# Altium schematic symbol library Buck Switching Regulators.SchLib: 23 symbols
Pins are listed as number, name and electrical type; pins without a type are passive.

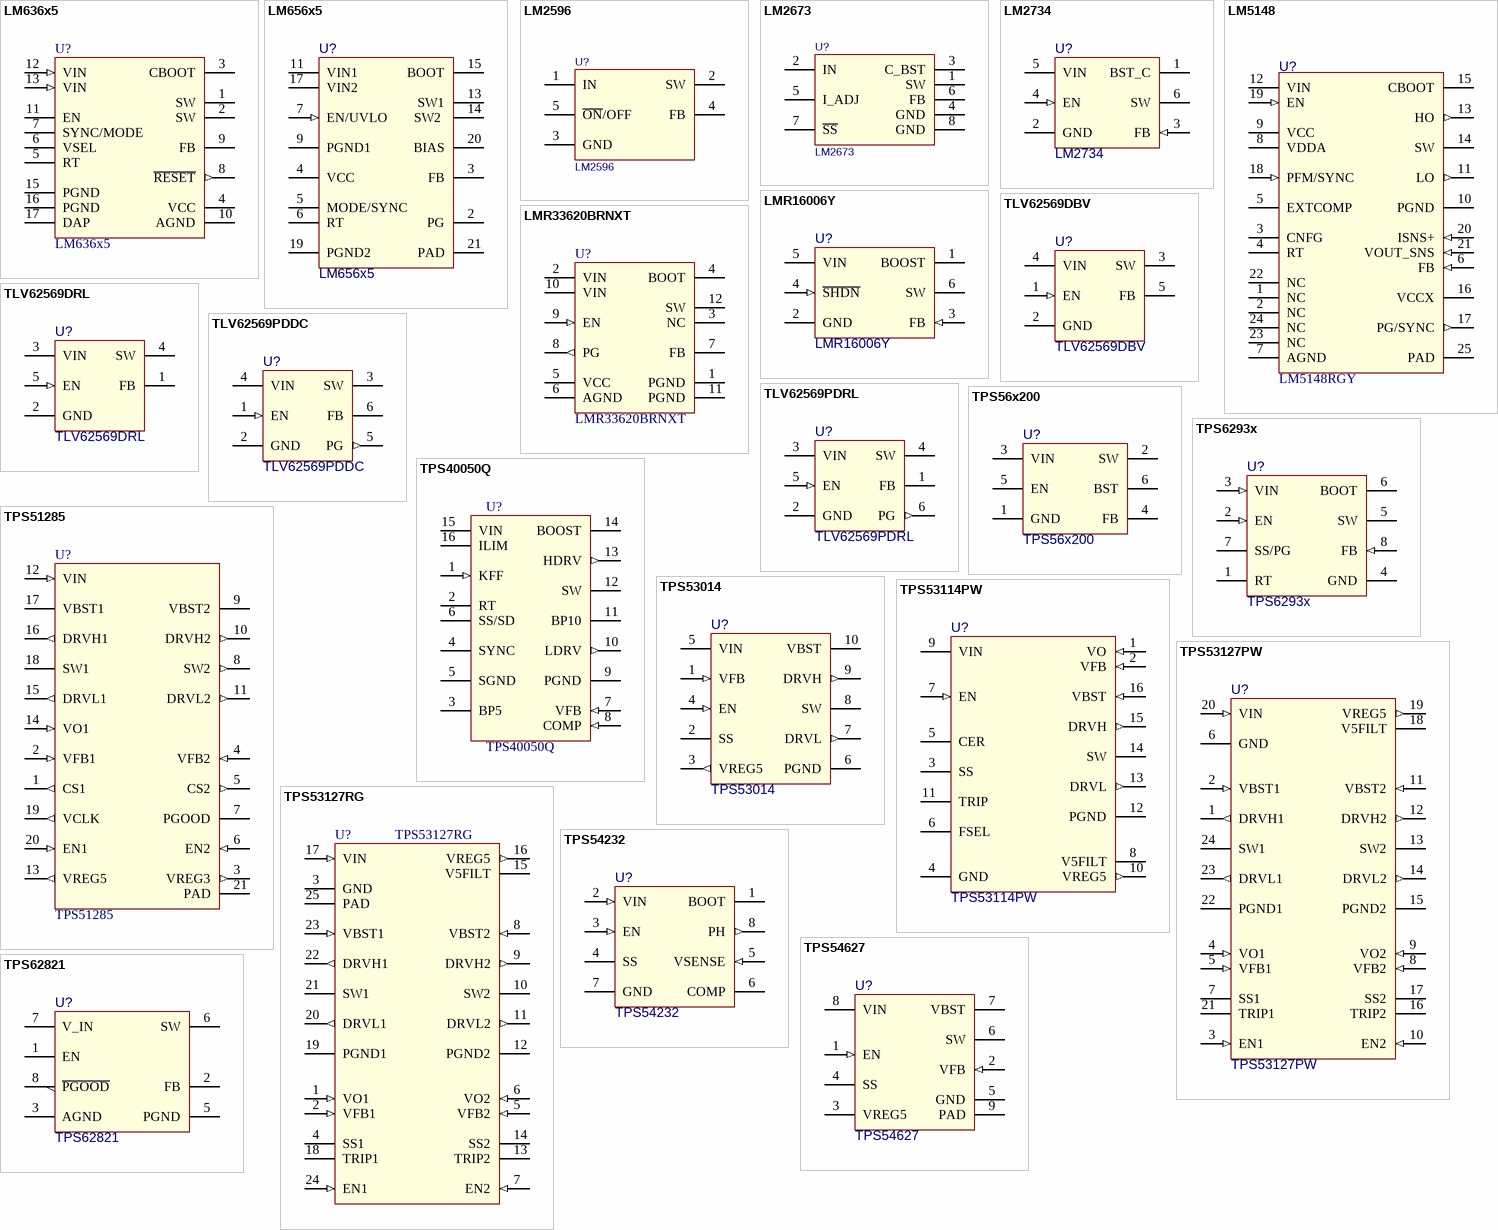
[diagram p0: symbols LM636x5 to TPS62821]

## LM636x5
designator U?
3.5-V to 36-V, 1.5-A, and 2.5-A Automotive Step-down Voltage Converter; value: TPS54232
footprint HTSSOP-16 (Footprint not found)
pins: 1 SW, 2 SW, 3 CBOOT, 4 VCC (power), 5 RT, 6 VSEL, 7 SYNC/MODE, 8 ~{RESET} (out), 9 FB, 10 AGND, 11 EN, 12 VIN (in), 13 VIN (in), 15 PGND, 16 PGND, 17 DAP

## LM656x5
designator U?
3V to 65V, 2.5A, 3.5A, 4.5A, / Automotive, Low EMI, Synchronous Buck Converters; Value: LM65635SRZTRQ1
footprint WQFN-20 (RZT0020A) (WQFN-FCRLF - 0.7 mm max height)
pins: 2 PG (oc), 3 FB, 4 VCC (power), 5 MODE/SYNC, 6 RT, 7 EN/UVLO (in), 9 PGND1 (power), 11 VIN1 (power), 13 SW1, 14 SW2 , 15 BOOT, 17 VIN2 (power), 19 PGND2 (power), 20 BIAS, 21 PAD

## LM2596
designator U?
SIMPLE SWITCHER® Power Converter 150-kHz / 3-A Step-Down Voltage Regulator; Value: LM2596
footprint TO263-5 (Footprint not found)
pins: 1 IN, 2 SW, 3 GND, 4 FB, 5 ~{ON}/OFF

## LM2673
designator U?
SIMPLE SWITCHER® 3-A Step-Down Voltage Regulator With Adjustable Current / Limit; PackageDocument: 1996; ComponentLink2DescA4: Datasheet; ComponentLink3DescAC: URL Link1; PackageReference: TA07B; Value: LM2673
footprint TO263-7 (Footprint not found)
pins: 1 SW, 2 IN, 3 C_BST, 4 GND, 5 I_ADJ, 6 FB, 7 ~{SS}, 8 GND

## LM2734
designator U?
Thin SOT 1-A Load Step-Down DC/DC Regulator; Value: LM2734
footprint SOT23-6 (Footprint not found)
pins: 1 BST_C, 2 GND (power), 3 FB (in), 4 EN (in), 5 VIN (power), 6 SW

## LM5148
designator U?, comment LM5148RGY
80-V, Synchronous, Buck DC/DC Controller with Ultra-Low IQ and Dual / Random Spread Spectrum; Value: LM5148RGY
footprint VQFN-24 (RGY0024F) (VQFN, 24-Leads, Body 3.50x5.50mm, Pitch 1.50mm/0.50mm, Thermal Pad 2.10x4.10mm, IPC Medium Density)
pins: 1 NC "Connect to GND at the exposed pad to improve heat spreading.", 2 NC "Connect to GND at the exposed pad to improve heat spreading.", 3 CNFG "Connect a resistor to ground to set primary/secondary, spread spectrum enable/disable, or interleaved", 4 RT "Frequency programming pin. A resistor from RT to AGND sets the  frequency between 100 kHz 2MHz", 5 EXTCOMP, 6 FB (in), 7 AGND (power), 8 VDDA (power), 9 VCC (power), 10 PGND (power), 11 LO (out) "Low-side power MOSFET gate driver output", 12 VIN (power), 13 HO (out) "High-side power MOSFET gate driver output", 14 SW "Switching node of the buck regulator and high-side gate driver return. Connect to the bootstrap capacitor,", 15 CBOOT "High-side driver supply for bootstrap gate driver", 16 VCCX (power) "Optional input for an external bias supply", 17 PG/SYNC (out), 18 PFM/SYNC (in), 19 EN (in), 20 ISNS+ (in), 21 VOUT_SNS (in), 22 NC "Connect to GND at the exposed pad to improve heat spreading.", 23 NC "Connect to GND at the exposed pad to improve heat spreading.", 24 NC "Connect to GND at the exposed pad to improve heat spreading.", 25 PAD

## LMR16006Y
designator U?
SIMPLE SWITCHER® Buck Regulators With High-Efficiency ECO Mode; value: LMR16006Y
footprint SOT-23-6 (Footprint not found)
pins: 1 BOOST, 2 GND (power), 3 FB (in), 4 ~{SHDN} (in), 5 VIN (power), 6 SW

## LMR33620BRNXT
designator U?
3.8-V to 36-V, 2-A Synchronous step-down voltage converter; Value: LMR33620BRNXT
footprint VQFN-HR-12 (VQFN-HR, 12-Leads, Body 2,00x3,00mm, Pitch 0,50mm, IPC Medium Density)
pins: 1 PGND (power), 2 VIN (power), 3 NC, 4 BOOT, 5 VCC (power), 6 AGND (power), 7 FB, 8 PG (out), 9 EN (in), 10 VIN (power), 11 PGND (power), 12 SW (power)

## TLV62569DBV
designator U?, comment value TLV62569DBV  (hidden comment: TLV62569DBV SOT23-5)
High Efficiency Synchronous Buck Converter in SOT Package
footprint SOT-23-5 (SOT23, 5-Leads, Body 2.9x1.6mm, Pitch 0.95mm, Lead Span 2.8mm, IPC Medium Density)
pins: 1 EN (in), 2 GND (power), 3 SW, 4 VIN (power), 5 FB

## TLV62569DRL
designator U?, comment value TLV62569DRL  (hidden comment: TLV62569 SOT563-6)
High Efficiency Synchronous Buck Converter in SOT Package
footprint SOT-563-6 (DRL0006A) (SOT563, 6-Leads, Body 1.2x1.6mm, Pitch 0.50mm, IPC Medium Density)
pins: 1 FB, 2 GND (power), 3 VIN (power), 4 SW, 5 EN (in)

## TLV62569PDDC
designator U?, comment value TLV62569PDDC  (hidden comment: TLV62569P SOT23-6)
High Efficiency Synchronous Buck Converter in SOT Package
footprint SOT-23-6 (SOT23, 6-Leads, Body 2.9x1.6mm, Pitch 0.95mm, Lead Span 2.8mm, IPC Medium Density)
pins: 1 EN (in), 2 GND (power), 3 SW, 4 VIN (power), 5 PG (out), 6 FB

## TLV62569PDRL
designator U?, comment value TLV62569PDRL  (hidden comment: TLV62569P SOT563-6)
High Efficiency Synchronous Buck Converter in SOT Package
footprint SOT-563-6 (DRL0006A) (SOT563, 6-Leads, Body 1.2x1.6mm, Pitch 0.50mm, IPC Medium Density)
pins: 1 FB, 2 GND (power), 3 VIN (power), 4 SW, 5 EN (in), 6 PG (out)

## TPS56x200
designator U?
4.5-V to 17-V Input, 2-A, 3-A Synchronous Step-down Voltage Regulator PS562200, TPS563200; Value: TPS56x200
footprint SOT-23-6 (Footprint not found)
pins: 1 GND, 2 SW, 3 VIN, 4 FB, 5 EN, 6 BST

## TPS6293x
designator U?
3.8-V to 30-V, 2-A, 3-A Synchronous Buck Converters in a SOT583 Package; Value: TPS54232
footprint SOT-583-8 (SOT583, 8-Leads, Body 2.10x1.20mm, Pitch 0.50mm, IPC Medium Density)
pins: 1 RT, 2 EN (in), 3 VIN (in), 4 GND (power), 5 SW (power), 6 BOOT, 7 SS/PG, 8 FB (in)

## TPS40050Q
designator U?
Automotive 8V to 40V Synchronous Buck Controller; value: TPS40050Q
footprint HTSSOP-16 (PWP) (Footprint not found)
pins: 1 KFF (in), 2 RT, 3 BP5 (power), 4 SYNC, 5 SGND (power), 6 SS/SD, 7 VFB (in), 8 COMP (in), 9 PGND (power), 10 LDRV (out), 11 BP10 (power), 12 SW, 13 HDRV (out), 14 BOOST, 15 VIN, 16 ILIM

## TPS51285
designator U?
Ultra-Low Quiescent (ULQ™) Dual Synchronous Step-Down Controller with / 5V and 3.3V LDOs; Value: TPS53127RG
footprint WQFN-20 (QFN, 20-Leads, Body 3.00x3.00mm, Pitch 0.40mm, Thermal Pad 1.70x1.70mm, IPC Medium Density)
pins: 1 CS1 (out), 2 VFB1 (in), 3 VREG3 (out), 4 VFB2 (in), 5 CS2 (out), 6 EN2 (in), 7 PGOOD (oc), 8 SW2 (out), 9 VBST2, 10 DRVH2 (out), 11 DRVL2 (out), 12 VIN (in), 13 VREG5 (out), 14 VO1 (in), 15 DRVL1 (out), 16 DRVH1 (out), 17 VBST1, 18 SW1, 19 VCLK (out), 20 EN1 (in), 21 PAD (power)

## TPS53014
designator U?
Single Synchronous Step-down Controller for Low Voltage Power Rails; value: TPS53014
footprint TSSOP-10 (Footprint not found)
pins: 1 VFB (in), 2 SS, 3 VREG5 (out), 4 EN (in), 5 VIN, 6 PGND (power), 7 DRVL (out), 8 SW, 9 DRVH (out), 10 VBST

## TPS53114PW
designator U?
Single Synchronous Step-down Controller for Low Voltage Power Rails; value: TPS53114PW
footprint TSSOP-16 (Footprint not found)
pins: 1 VO (in), 2 VFB (in), 3 SS, 4 GND (power), 5 CER "Output capacitor select pin. Connect to GND for ceramic output capacitors. Connect to V5FILT for CER 5 I  conductive polymer electrolyte type output capacitors (SP-CAP, POS-CAP, PXE)", 6 FSEL, 7 EN (in), 8 V5FILT, 9 VIN (power), 10 VREG5 (out), 11 TRIP, 12 PGND, 13 DRVL (out), 14 SW, 15 DRVH (out), 16 VBST (in)

## TPS53127PW
designator U?
Dual Synchronous Step-Down Controller  For Low Voltage Power Rails; value: TPS53127PW
footprint TSSOP-24 (Footprint not found)
pins: 1 DRVH1 (out), 2 VBST1 (in), 3 EN1 (in), 4 VO1 (in), 5 VFB1 (in), 6 GND (power), 7 SS1, 8 VFB2 (in), 9 VO2 (in), 10 EN2 (in), 11 VBST2 (in), 12 DRVH2 (out), 13 SW2, 14 DRVL2 (out), 15 PGND2, 16 TRIP2, 17 SS2, 18 V5FILT, 19 VREG5 (out), 20 VIN (in), 21 TRIP1, 22 PGND1, 23 DRVL1 (out), 24 SW1

## TPS53127RG
designator U?
Dual Synchronous Step-Down Controller  For Low Voltage Power Rails; Value: TPS53127RG
footprint QFN-24-4x4 (Footprint not found)
pins: 1 VO1 (in), 2 VFB1 (in), 3 GND (power), 4 SS1, 5 VFB2 (in), 6 VO2 (in), 7 EN2 (in), 8 VBST2 (in), 9 DRVH2 (out), 10 SW2, 11 DRVL2 (out), 12 PGND2, 13 TRIP2, 14 SS2, 15 V5FILT, 16 VREG5 (out), 17 VIN (in), 18 TRIP1, 19 PGND1, 20 DRVL1 (out), 21 SW1, 22 DRVH1 (out), 23 VBST1 (in), 24 EN1 (in), 25 PAD (power)

## TPS54232
designator U?
TPS54232 2-A, 28-V, 1-MHz, Step-Down DC-DC Converter With Eco-Mode™; value: TPS54232
footprint SO-8_N (Footprint not found)
pins: 1 BOOT, 2 VIN (in), 3 EN (in), 4 SS, 5 VSENSE (in), 6 COMP, 7 GND (power), 8 PH (out)

## TPS54627
designator U?
TPS54627 4.5-V to 18-V Input, 6-A Synchronous Step-Down Converter; value: TPS54627
footprint SO-8-PAD (Footprint not found)
pins: 1 EN (in), 2 VFB (in), 3 VREG5 (power), 4 SS, 5 GND, 6 SW, 7 VBST, 8 VIN (power), 9 PAD

## TPS62821
designator U?
2.4V-5.5V input, 1A step-down converter With 1% Accuracy in 1.5x2mm QFN; Value: TPS62821
footprint VSON-8-2X1.5 (Footprint not found)
pins: 1 EN, 2 FB, 3 AGND (power), 5 PGND (power), 6 SW, 7 V_IN (power), 8 ~{PGOOD} (oc)